# Altium schematic symbol library SCH - MCU - STM32 - ST MICROELECTRONICS STM32N657X0HXQ VFBGA264.SchLib: 1 symbol
Pins are listed as number, name and electrical type; pins without a type are passive.

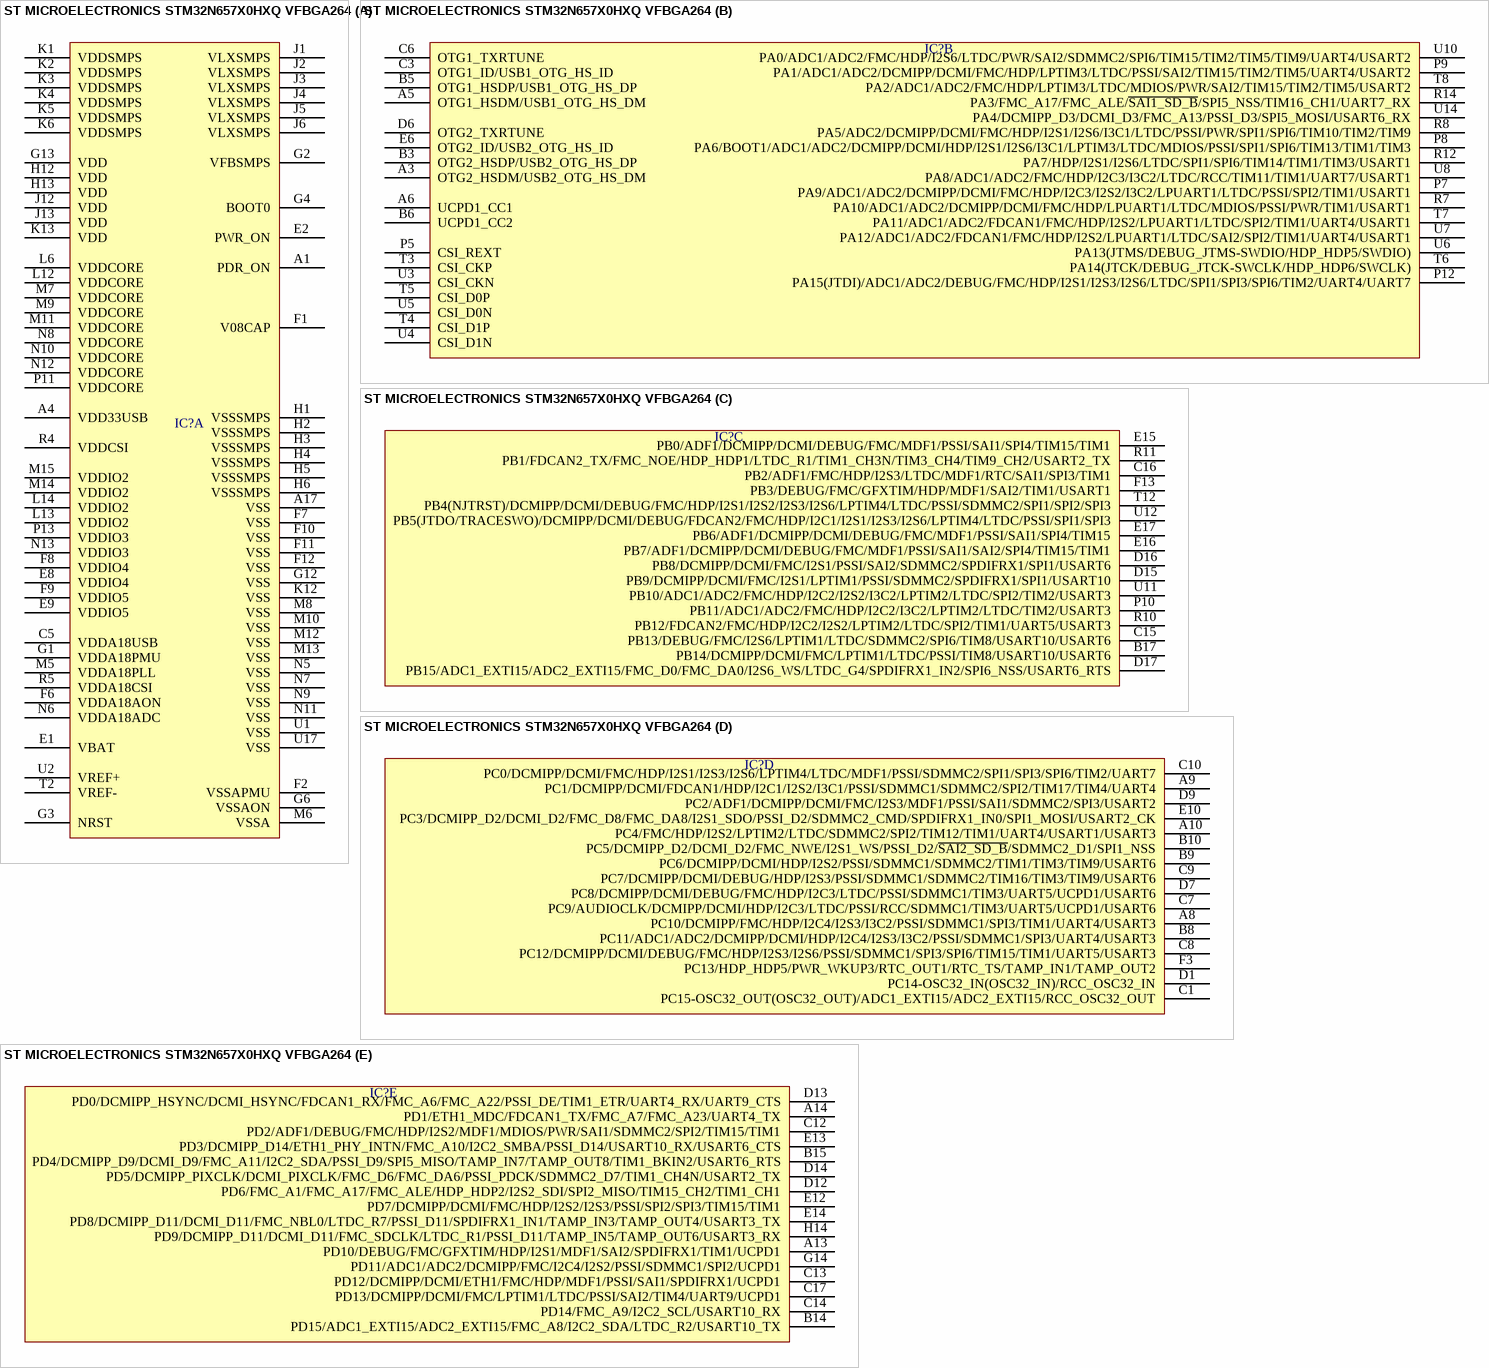
[diagram p0: symbol ST MICROELECTRONICS STM32N657X0HXQ VFBGA264]

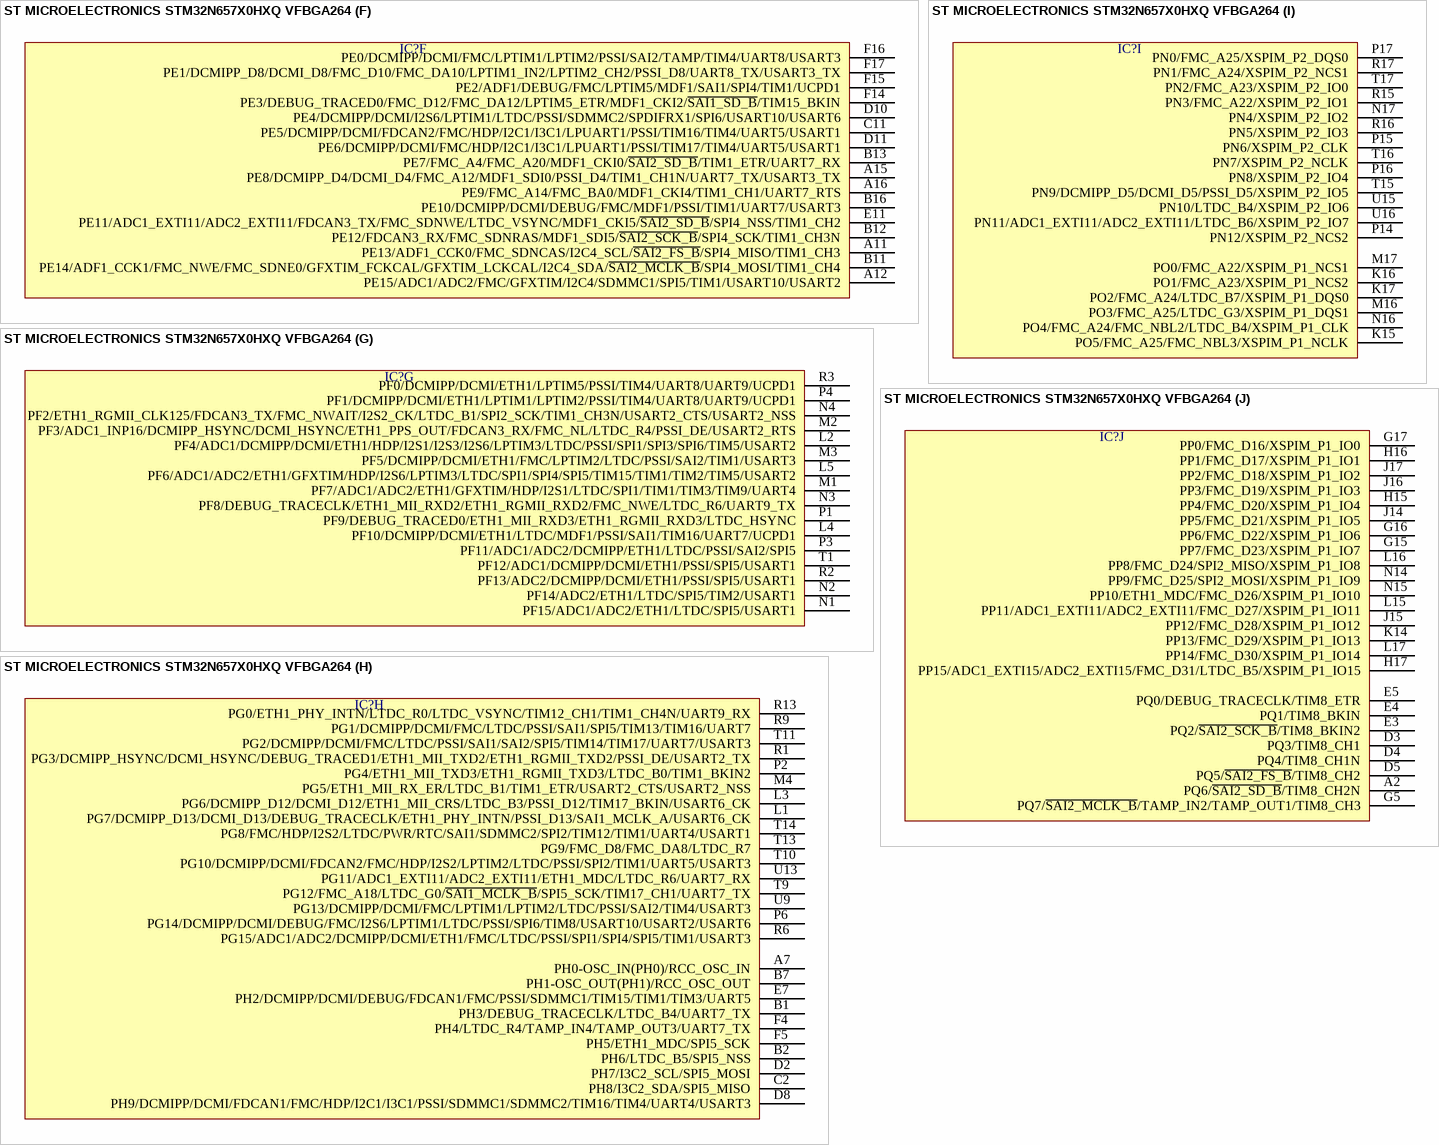
[diagram p1: symbol ST MICROELECTRONICS STM32N657X0HXQ VFBGA264]

## ST MICROELECTRONICS STM32N657X0HXQ VFBGA264
designator IC?  (value not drawn)
part A pins: A1 PDR_ON, A4 VDD33USB, A17 VSS, C5 VDDA18USB, E1 VBAT, E2 PWR_ON, E8 VDDIO4, E9 VDDIO5, F1 V08CAP, F2 VSSAPMU, F6 VDDA18AON, F7 VSS, F8 VDDIO4, F9 VDDIO5, F10 VSS, F11 VSS, F12 VSS, G1 VDDA18PMU, G2 VFBSMPS, G3 NRST, G4 BOOT0, G6 VSSAON, G12 VSS, G13 VDD, H1 VSSSMPS, H2 VSSSMPS, H3 VSSSMPS, H4 VSSSMPS, H5 VSSSMPS, H6 VSSSMPS, H12 VDD, H13 VDD, J1 VLXSMPS, J2 VLXSMPS, J3 VLXSMPS, J4 VLXSMPS, J5 VLXSMPS, J6 VLXSMPS, J12 VDD, J13 VDD, K1 VDDSMPS, K2 VDDSMPS, K3 VDDSMPS, K4 VDDSMPS, K5 VDDSMPS, K6 VDDSMPS, K12 VSS, K13 VDD, L6 VDDCORE, L12 VDDCORE, L13 VDDIO2, L14 VDDIO2, M5 VDDA18PLL, M6 VSSA, M7 VDDCORE, M8 VSS, M9 VDDCORE, M10 VSS, M11 VDDCORE, M12 VSS, M13 VSS, M14 VDDIO2, M15 VDDIO2, N5 VSS, N6 VDDA18ADC, N7 VSS, N8 VDDCORE, N9 VSS, N10 VDDCORE, N11 VSS, N12 VDDCORE, N13 VDDIO3, P11 VDDCORE, P13 VDDIO3, R4 VDDCSI, R5 VDDA18CSI, T2 VREF-, U1 VSS, U2 VREF+, U17 VSS
part B pins: A3 OTG2_HSDM/USB2_OTG_HS_DM, A5 OTG1_HSDM/USB1_OTG_HS_DM, A6 UCPD1_CC1, B3 OTG2_HSDP/USB2_OTG_HS_DP, B5 OTG1_HSDP/USB1_OTG_HS_DP, B6 UCPD1_CC2, C3 OTG1_ID/USB1_OTG_HS_ID, C6 OTG1_TXRTUNE, D6 OTG2_TXRTUNE, E6 OTG2_ID/USB2_OTG_HS_ID, P5 CSI_REXT, P7 PA9/ADC1/ADC2/DCMIPP/DCMI/FMC/HDP/I2C3/I2S2/I3C2/LPUART1/LTDC/PSSI/SPI2/TIM1/USART1, P8 PA6/BOOT1/ADC1/ADC2/DCMIPP/DCMI/HDP/I2S1/I2S6/I3C1/LPTIM3/LTDC/MDIOS/PSSI/SPI1/SPI6/TIM13/TIM1/TIM3, P9 PA1/ADC1/ADC2/DCMIPP/DCMI/FMC/HDP/LPTIM3/LTDC/PSSI/SAI2/TIM15/TIM2/TIM5/UART4/USART2, P12 PA15(JTDI)/ADC1/ADC2/DEBUG/FMC/HDP/I2S1/I2S3/I2S6/LTDC/SPI1/SPI3/SPI6/TIM2/UART4/UART7, R7 PA10/ADC1/ADC2/DCMIPP/DCMI/FMC/HDP/LPUART1/LTDC/MDIOS/PSSI/PWR/TIM1/USART1, R8 PA5/ADC2/DCMIPP/DCMI/FMC/HDP/I2S1/I2S6/I3C1/LTDC/PSSI/PWR/SPI1/SPI6/TIM10/TIM2/TIM9, R12 PA7/HDP/I2S1/I2S6/LTDC/SPI1/SPI6/TIM14/TIM1/TIM3/USART1, R14 PA3/FMC_A17/FMC_ALE/~{SAI1_SD_B}/SPI5_NSS/TIM16_CH1/UART7_RX, T3 CSI_CKP, T4 CSI_D1P, T5 CSI_D0P, T6 PA14(JTCK/DEBUG_JTCK-SWCLK/HDP_HDP6/SWCLK), T7 PA11/ADC1/ADC2/FDCAN1/FMC/HDP/I2S2/LPUART1/LTDC/SPI2/TIM1/UART4/USART1, T8 PA2/ADC1/ADC2/FMC/HDP/LPTIM3/LTDC/MDIOS/PWR/SAI2/TIM15/TIM2/TIM5/USART2, U3 CSI_CKN, U4 CSI_D1N, U5 CSI_D0N, U6 PA13(JTMS/DEBUG_JTMS-SWDIO/HDP_HDP5/SWDIO), U7 PA12/ADC1/ADC2/FDCAN1/FMC/HDP/I2S2/LPUART1/LTDC/SAI2/SPI2/TIM1/UART4/USART1, U8 PA8/ADC1/ADC2/FMC/HDP/I2C3/I3C2/LTDC/RCC/TIM11/TIM1/UART7/USART1, U10 PA0/ADC1/ADC2/FMC/HDP/I2S6/LTDC/PWR/SAI2/SDMMC2/SPI6/TIM15/TIM2/TIM5/TIM9/UART4/USART2, U14 PA4/DCMIPP_D3/DCMI_D3/FMC_A13/PSSI_D3/SPI5_MOSI/USART6_RX
part C pins: B17 PB14/DCMIPP/DCMI/FMC/LPTIM1/LTDC/PSSI/TIM8/USART10/USART6, C15 PB13/DEBUG/FMC/I2S6/LPTIM1/LTDC/SDMMC2/SPI6/TIM8/USART10/USART6, C16 PB2/ADF1/FMC/HDP/I2S3/LTDC/MDF1/RTC/SAI1/SPI3/TIM1, D15 PB9/DCMIPP/DCMI/FMC/I2S1/LPTIM1/PSSI/SDMMC2/SPDIFRX1/SPI1/USART10, D16 PB8/DCMIPP/DCMI/FMC/I2S1/PSSI/SAI2/SDMMC2/SPDIFRX1/SPI1/USART6, D17 PB15/ADC1_EXTI15/ADC2_EXTI15/FMC_D0/FMC_DA0/I2S6_WS/LTDC_G4/SPDIFRX1_IN2/SPI6_NSS/USART6_RTS, E15 PB0/ADF1/DCMIPP/DCMI/DEBUG/FMC/MDF1/PSSI/SAI1/SPI4/TIM15/TIM1, E16 PB7/ADF1/DCMIPP/DCMI/DEBUG/FMC/MDF1/PSSI/SAI1/SAI2/SPI4/TIM15/TIM1, E17 PB6/ADF1/DCMIPP/DCMI/DEBUG/FMC/MDF1/PSSI/SAI1/SPI4/TIM15, F13 PB3/DEBUG/FMC/GFXTIM/HDP/MDF1/SAI2/TIM1/USART1, P10 PB11/ADC1/ADC2/FMC/HDP/I2C2/I3C2/LPTIM2/LTDC/TIM2/USART3, R10 PB12/FDCAN2/FMC/HDP/I2C2/I2S2/LPTIM2/LTDC/SPI2/TIM1/UART5/USART3, R11 PB1/FDCAN2_TX/FMC_NOE/HDP_HDP1/LTDC_R1/TIM1_CH3N/TIM3_CH4/TIM9_CH2/USART2_TX, T12 PB4(NJTRST)/DCMIPP/DCMI/DEBUG/FMC/HDP/I2S1/I2S2/I2S3/I2S6/LPTIM4/LTDC/PSSI/SDMMC2/SPI1/SPI2/SPI3, U11 PB10/ADC1/ADC2/FMC/HDP/I2C2/I2S2/I3C2/LPTIM2/LTDC/SPI2/TIM2/USART3, U12 PB5(JTDO/TRACESWO)/DCMIPP/DCMI/DEBUG/FDCAN2/FMC/HDP/I2C1/I2S1/I2S3/I2S6/LPTIM4/LTDC/PSSI/SPI1/SPI3
part D pins: A8 PC10/DCMIPP/FMC/HDP/I2C4/I2S3/I3C2/PSSI/SDMMC1/SPI3/TIM1/UART4/USART3, A9 PC1/DCMIPP/DCMI/FDCAN1/HDP/I2C1/I2S2/I3C1/PSSI/SDMMC1/SDMMC2/SPI2/TIM17/TIM4/UART4, A10 PC4/FMC/HDP/I2S2/LPTIM2/LTDC/SDMMC2/SPI2/TIM12/TIM1/UART4/USART1/USART3, B8 PC11/ADC1/ADC2/DCMIPP/DCMI/HDP/I2C4/I2S3/I3C2/PSSI/SDMMC1/SPI3/UART4/USART3, B9 PC6/DCMIPP/DCMI/HDP/I2S2/PSSI/SDMMC1/SDMMC2/TIM1/TIM3/TIM9/USART6, B10 PC5/DCMIPP_D2/DCMI_D2/FMC_NWE/I2S1_WS/PSSI_D2/~{SAI2_SD_B}/SDMMC2_D1/SPI1_NSS, C1 PC15-OSC32_OUT(OSC32_OUT)/ADC1_EXTI15/ADC2_EXTI15/RCC_OSC32_OUT, C7 PC9/AUDIOCLK/DCMIPP/DCMI/HDP/I2C3/LTDC/PSSI/RCC/SDMMC1/TIM3/UART5/UCPD1/USART6, C8 PC12/DCMIPP/DCMI/DEBUG/FMC/HDP/I2S3/I2S6/PSSI/SDMMC1/SPI3/SPI6/TIM15/TIM1/UART5/USART3, C9 PC7/DCMIPP/DCMI/DEBUG/HDP/I2S3/PSSI/SDMMC1/SDMMC2/TIM16/TIM3/TIM9/USART6, C10 PC0/DCMIPP/DCMI/FMC/HDP/I2S1/I2S3/I2S6/LPTIM4/LTDC/MDF1/PSSI/SDMMC2/SPI1/SPI3/SPI6/TIM2/UART7, D1 PC14-OSC32_IN(OSC32_IN)/RCC_OSC32_IN, D7 PC8/DCMIPP/DCMI/DEBUG/FMC/HDP/I2C3/LTDC/PSSI/SDMMC1/TIM3/UART5/UCPD1/USART6, D9 PC2/ADF1/DCMIPP/DCMI/FMC/I2S3/MDF1/PSSI/SAI1/SDMMC2/SPI3/USART2, E10 PC3/DCMIPP_D2/DCMI_D2/FMC_D8/FMC_DA8/I2S1_SDO/PSSI_D2/SDMMC2_CMD/SPDIFRX1_IN0/SPI1_MOSI/USART2_CK, F3 PC13/HDP_HDP5/PWR_WKUP3/RTC_OUT1/RTC_TS/TAMP_IN1/TAMP_OUT2
part E pins: A13 PD10/DEBUG/FMC/GFXTIM/HDP/I2S1/MDF1/SAI2/SPDIFRX1/TIM1/UCPD1, A14 PD1/ETH1_MDC/FDCAN1_TX/FMC_A7/FMC_A23/UART4_TX, B14 PD15/ADC1_EXTI15/ADC2_EXTI15/FMC_A8/I2C2_SDA/LTDC_R2/USART10_TX, B15 PD4/DCMIPP_D9/DCMI_D9/FMC_A11/I2C2_SDA/PSSI_D9/SPI5_MISO/TAMP_IN7/TAMP_OUT8/TIM1_BKIN2/USART6_RTS, C12 PD2/ADF1/DEBUG/FMC/HDP/I2S2/MDF1/MDIOS/PWR/SAI1/SDMMC2/SPI2/TIM15/TIM1, C13 PD12/DCMIPP/DCMI/ETH1/FMC/HDP/MDF1/PSSI/SAI1/SPDIFRX1/UCPD1, C14 PD14/FMC_A9/I2C2_SCL/USART10_RX, C17 PD13/DCMIPP/DCMI/FMC/LPTIM1/LTDC/PSSI/SAI2/TIM4/UART9/UCPD1, D12 PD6/FMC_A1/FMC_A17/FMC_ALE/HDP_HDP2/I2S2_SDI/SPI2_MISO/TIM15_CH2/TIM1_CH1, D13 PD0/DCMIPP_HSYNC/DCMI_HSYNC/FDCAN1_RX/FMC_A6/FMC_A22/PSSI_DE/TIM1_ETR/UART4_RX/UART9_CTS, D14 PD5/DCMIPP_PIXCLK/DCMI_PIXCLK/FMC_D6/FMC_DA6/PSSI_PDCK/SDMMC2_D7/TIM1_CH4N/USART2_TX, E12 PD7/DCMIPP/DCMI/FMC/HDP/I2S2/I2S3/PSSI/SPI2/SPI3/TIM15/TIM1, E13 PD3/DCMIPP_D14/ETH1_PHY_INTN/FMC_A10/I2C2_SMBA/PSSI_D14/USART10_RX/USART6_CTS, E14 PD8/DCMIPP_D11/DCMI_D11/FMC_NBL0/LTDC_R7/PSSI_D11/SPDIFRX1_IN1/TAMP_IN3/TAMP_OUT4/USART3_TX, G14 PD11/ADC1/ADC2/DCMIPP/FMC/I2C4/I2S2/PSSI/SDMMC1/SPI2/UCPD1, H14 PD9/DCMIPP_D11/DCMI_D11/FMC_SDCLK/LTDC_R1/PSSI_D11/TAMP_IN5/TAMP_OUT6/USART3_RX
part F pins: A11 PE13/ADF1_CCK0/FMC_SDNCAS/I2C4_SCL/~{SAI2_FS_B}/SPI4_MISO/TIM1_CH3, A12 PE15/ADC1/ADC2/FMC/GFXTIM/I2C4/SDMMC1/SPI5/TIM1/USART10/USART2, A15 PE8/DCMIPP_D4/DCMI_D4/FMC_A12/MDF1_SDI0/PSSI_D4/TIM1_CH1N/UART7_TX/USART3_TX, A16 PE9/FMC_A14/FMC_BA0/MDF1_CKI4/TIM1_CH1/UART7_RTS, B11 PE14/ADF1_CCK1/FMC_NWE/FMC_SDNE0/GFXTIM_FCKCAL/GFXTIM_LCKCAL/I2C4_SDA/~{SAI2_MCLK_B}/SPI4_MOSI/TIM1_CH4, B12 PE12/FDCAN3_RX/FMC_SDNRAS/MDF1_SDI5/~{SAI2_SCK_B}/SPI4_SCK/TIM1_CH3N, B13 PE7/FMC_A4/FMC_A20/MDF1_CKI0/~{SAI2_SD_B}/TIM1_ETR/UART7_RX, B16 PE10/DCMIPP/DCMI/DEBUG/FMC/MDF1/PSSI/TIM1/UART7/USART3, C11 PE5/DCMIPP/DCMI/FDCAN2/FMC/HDP/I2C1/I3C1/LPUART1/PSSI/TIM16/TIM4/UART5/USART1, D10 PE4/DCMIPP/DCMI/I2S6/LPTIM1/LTDC/PSSI/SDMMC2/SPDIFRX1/SPI6/USART10/USART6, D11 PE6/DCMIPP/DCMI/FMC/HDP/I2C1/I3C1/LPUART1/PSSI/TIM17/TIM4/UART5/USART1, E11 PE11/ADC1_EXTI11/ADC2_EXTI11/FDCAN3_TX/FMC_SDNWE/LTDC_VSYNC/MDF1_CKI5/~{SAI2_SD_B}/SPI4_NSS/TIM1_CH2, F14 PE3/DEBUG_TRACED0/FMC_D12/FMC_DA12/LPTIM5_ETR/MDF1_CKI2/~{SAI1_SD_B}/TIM15_BKIN, F15 PE2/ADF1/DEBUG/FMC/LPTIM5/MDF1/SAI1/SPI4/TIM1/UCPD1, F16 PE0/DCMIPP/DCMI/FMC/LPTIM1/LPTIM2/PSSI/SAI2/TAMP/TIM4/UART8/USART3, F17 PE1/DCMIPP_D8/DCMI_D8/FMC_D10/FMC_DA10/LPTIM1_IN2/LPTIM2_CH2/PSSI_D8/UART8_TX/USART3_TX
part G pins: L2 PF4/ADC1/DCMIPP/DCMI/ETH1/HDP/I2S1/I2S3/I2S6/LPTIM3/LTDC/PSSI/SPI1/SPI3/SPI6/TIM5/USART2, L4 PF10/DCMIPP/DCMI/ETH1/LTDC/MDF1/PSSI/SAI1/TIM16/UART7/UCPD1, L5 PF6/ADC1/ADC2/ETH1/GFXTIM/HDP/I2S6/LPTIM3/LTDC/SPI1/SPI4/SPI5/TIM15/TIM1/TIM2/TIM5/USART2, M1 PF7/ADC1/ADC2/ETH1/GFXTIM/HDP/I2S1/LTDC/SPI1/TIM1/TIM3/TIM9/UART4, M2 PF3/ADC1_INP16/DCMIPP_HSYNC/DCMI_HSYNC/ETH1_PPS_OUT/FDCAN3_RX/FMC_NL/LTDC_R4/PSSI_DE/USART2_RTS, M3 PF5/DCMIPP/DCMI/ETH1/FMC/LPTIM2/LTDC/PSSI/SAI2/TIM1/USART3, N1 PF15/ADC1/ADC2/ETH1/LTDC/SPI5/USART1, N2 PF14/ADC2/ETH1/LTDC/SPI5/TIM2/USART1, N3 PF8/DEBUG_TRACECLK/ETH1_MII_RXD2/ETH1_RGMII_RXD2/FMC_NWE/LTDC_R6/UART9_TX, N4 PF2/ETH1_RGMII_CLK125/FDCAN3_TX/FMC_NWAIT/I2S2_CK/LTDC_B1/SPI2_SCK/TIM1_CH3N/USART2_CTS/USART2_NSS, P1 PF9/DEBUG_TRACED0/ETH1_MII_RXD3/ETH1_RGMII_RXD3/LTDC_HSYNC, P3 PF11/ADC1/ADC2/DCMIPP/ETH1/LTDC/PSSI/SAI2/SPI5, P4 PF1/DCMIPP/DCMI/ETH1/LPTIM1/LPTIM2/PSSI/TIM4/UART8/UART9/UCPD1, R2 PF13/ADC2/DCMIPP/DCMI/ETH1/PSSI/SPI5/USART1, R3 PF0/DCMIPP/DCMI/ETH1/LPTIM5/PSSI/TIM4/UART8/UART9/UCPD1, T1 PF12/ADC1/DCMIPP/DCMI/ETH1/PSSI/SPI5/USART1
part H pins: A7 PH0-OSC_IN(PH0)/RCC_OSC_IN, B1 PH3/DEBUG_TRACECLK/LTDC_B4/UART7_TX, B2 PH6/LTDC_B5/SPI5_NSS, B7 PH1-OSC_OUT(PH1)/RCC_OSC_OUT, C2 PH8/I3C2_SDA/SPI5_MISO, D2 PH7/I3C2_SCL/SPI5_MOSI, D8 PH9/DCMIPP/DCMI/FDCAN1/FMC/HDP/I2C1/I3C1/PSSI/SDMMC1/SDMMC2/TIM16/TIM4/UART4/USART3, E7 PH2/DCMIPP/DCMI/DEBUG/FDCAN1/FMC/PSSI/SDMMC1/TIM15/TIM1/TIM3/UART5, F4 PH4/LTDC_R4/TAMP_IN4/TAMP_OUT3/UART7_TX, F5 PH5/ETH1_MDC/SPI5_SCK, L1 PG7/DCMIPP_D13/DCMI_D13/DEBUG_TRACECLK/ETH1_PHY_INTN/PSSI_D13/SAI1_MCLK_A/USART6_CK, L3 PG6/DCMIPP_D12/DCMI_D12/ETH1_MII_CRS/LTDC_B3/PSSI_D12/TIM17_BKIN/USART6_CK, M4 PG5/ETH1_MII_RX_ER/LTDC_B1/TIM1_ETR/USART2_CTS/USART2_NSS, P2 PG4/ETH1_MII_TXD3/ETH1_RGMII_TXD3/LTDC_B0/TIM1_BKIN2, P6 PG14/DCMIPP/DCMI/DEBUG/FMC/I2S6/LPTIM1/LTDC/PSSI/SPI6/TIM8/USART10/USART2/USART6, R1 PG3/DCMIPP_HSYNC/DCMI_HSYNC/DEBUG_TRACED1/ETH1_MII_TXD2/ETH1_RGMII_TXD2/PSSI_DE/USART2_TX, R6 PG15/ADC1/ADC2/DCMIPP/DCMI/ETH1/FMC/LTDC/PSSI/SPI1/SPI4/SPI5/TIM1/USART3, R9 PG1/DCMIPP/DCMI/FMC/LTDC/PSSI/SAI1/SPI5/TIM13/TIM16/UART7, R13 PG0/ETH1_PHY_INTN/LTDC_R0/LTDC_VSYNC/TIM12_CH1/TIM1_CH4N/UART9_RX, T9 PG12/FMC_A18/LTDC_G0/~{SAI1_MCLK_B}/SPI5_SCK/TIM17_CH1/UART7_TX, T10 PG10/DCMIPP/DCMI/FDCAN2/FMC/HDP/I2S2/LPTIM2/LTDC/PSSI/SPI2/TIM1/UART5/USART3, T11 PG2/DCMIPP/DCMI/FMC/LTDC/PSSI/SAI1/SAI2/SPI5/TIM14/TIM17/UART7/USART3, T13 PG9/FMC_D8/FMC_DA8/LTDC_R7, T14 PG8/FMC/HDP/I2S2/LTDC/PWR/RTC/SAI1/SDMMC2/SPI2/TIM12/TIM1/UART4/USART1, U9 PG13/DCMIPP/DCMI/FMC/LPTIM1/LPTIM2/LTDC/PSSI/SAI2/TIM4/USART3, U13 PG11/ADC1_EXTI11/ADC2_EXTI11/ETH1_MDC/LTDC_R6/UART7_RX
part I pins: K15 PO5/FMC_A25/FMC_NBL3/XSPIM_P1_NCLK, K16 PO1/FMC_A23/XSPIM_P1_NCS2, K17 PO2/FMC_A24/LTDC_B7/XSPIM_P1_DQS0, M16 PO3/FMC_A25/LTDC_G3/XSPIM_P1_DQS1, M17 PO0/FMC_A22/XSPIM_P1_NCS1, N16 PO4/FMC_A24/FMC_NBL2/LTDC_B4/XSPIM_P1_CLK, N17 PN4/XSPIM_P2_IO2, P14 PN12/XSPIM_P2_NCS2, P15 PN6/XSPIM_P2_CLK, P16 PN8/XSPIM_P2_IO4, P17 PN0/FMC_A25/XSPIM_P2_DQS0, R15 PN3/FMC_A22/XSPIM_P2_IO1, R16 PN5/XSPIM_P2_IO3, R17 PN1/FMC_A24/XSPIM_P2_NCS1, T15 PN9/DCMIPP_D5/DCMI_D5/PSSI_D5/XSPIM_P2_IO5, T16 PN7/XSPIM_P2_NCLK, T17 PN2/FMC_A23/XSPIM_P2_IO0, U15 PN10/LTDC_B4/XSPIM_P2_IO6, U16 PN11/ADC1_EXTI11/ADC2_EXTI11/LTDC_B6/XSPIM_P2_IO7
part J pins: A2 PQ6/~{SAI2_SD_B}/TIM8_CH2N, D3 PQ3/TIM8_CH1, D4 PQ4/TIM8_CH1N, D5 PQ5/~{SAI2_FS_B}/TIM8_CH2, E3 PQ2/~{SAI2_SCK_B}/TIM8_BKIN2, E4 PQ1/TIM8_BKIN, E5 PQ0/DEBUG_TRACECLK/TIM8_ETR, G5 PQ7/~{SAI2_MCLK_B}/TAMP_IN2/TAMP_OUT1/TIM8_CH3, G15 PP7/FMC_D23/XSPIM_P1_IO7, G16 PP6/FMC_D22/XSPIM_P1_IO6, G17 PP0/FMC_D16/XSPIM_P1_IO0, H15 PP4/FMC_D20/XSPIM_P1_IO4, H16 PP1/FMC_D17/XSPIM_P1_IO1, H17 PP15/ADC1_EXTI15/ADC2_EXTI15/FMC_D31/LTDC_B5/XSPIM_P1_IO15, J14 PP5/FMC_D21/XSPIM_P1_IO5, J15 PP12/FMC_D28/XSPIM_P1_IO12, J16 PP3/FMC_D19/XSPIM_P1_IO3, J17 PP2/FMC_D18/XSPIM_P1_IO2, K14 PP13/FMC_D29/XSPIM_P1_IO13, L15 PP11/ADC1_EXTI11/ADC2_EXTI11/FMC_D27/XSPIM_P1_IO11, L16 PP8/FMC_D24/SPI2_MISO/XSPIM_P1_IO8, L17 PP14/FMC_D30/XSPIM_P1_IO14, N14 PP9/FMC_D25/SPI2_MOSI/XSPIM_P1_IO9, N15 PP10/ETH1_MDC/FMC_D26/XSPIM_P1_IO10